# Altium schematic symbol library W25Q64JVSSIQ.SchLib: 1 symbol
Pins are listed as number, name and electrical type; pins without a type are passive.

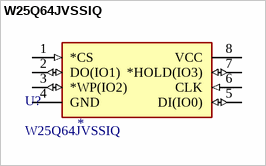
[diagram p0: symbol W25Q64JVSSIQ]

## W25Q64JVSSIQ
designator U?
SOP-8-208mil  NOR FLASH ROHS; LCSC: *
footprint W25Q64JVSSIQ
pins: 1 *CS (in), 2 DO(IO1) (io), 3 *WP(IO2) (io), 4 GND (power), 5 DI(IO0) (io), 6 CLK (in), 7 *HOLD(IO3) (io), 8 VCC (power)